# Altium schematic symbol library 282834-2.SchLib: 1 symbol
Pins are listed as number, name and electrical type; pins without a type are passive.

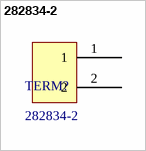
[diagram p0: symbol 282834-2]

## 282834-2
designator TERM?
TERM BLOCK 2POS SIDE ENT 2.54MM; Manufacturer: TE Connectivity; Product Training Modules: Wire-to-Board Eurostyle Terminal Blocks; Featured Product: Eurostyle Terminal Block Connectors; 3D Model: 282834-2.pdf; Number of Levels: 1; Positions Per Level: 2; Pitch: 0.100" (2.54mm); Mating Orientation: Horizontal with Board; Current: 10A; Voltage: 150V; Wire Gauge: 16-30 AWG; Wire Termination: Screw - Rising Cage Clamp; Clamp Material - Plating: Brass - Nickel Plated; Screw Material - Plating: Steel, Stainless; Torque - Screw: 0.2 Nm (1.7 Lb-In); Screw Thread: M1.6; Dynamic Catalog: Buchanan Series; Other Names: 282834-2-ND / A98333; Supplier 1: Digi-Key; Manufacturer Part Number: 282834-2; RoHS Information: 282834-2 Statement of Compliance; Standard Package: 300; Family: Terminal Blocks - Wire to Board; Series: Buchanan; Mounting Type: Through Hole; Color: Green; Packaging: Bulk; Operating Temperature: -40°C ~ 105°C; Housing Material: Polyamide (PA66), Nylon 6/6; Contact Material - Plating: Brass - Tin Plated; ComponentLink1URL: https://datasheet.ciiva.com/11758/0900766b80e7dc96-11758675.pdf; ComponentLink1Description: https://datasheet.ciiva.com/11758/0900766b80e7dc96-11758675.pdf; ComponentLink2URL: https://datasheet.ciiva.com/14609/70086732-14609670.pdf; ComponentLink2Description: https://datasheet.ciiva.com/14609/70086732-14609670.pdf; ComponentLink3URL: https://datasheet.ciiva.com/15169/getdatasheetpartid-155864-15169558.pdf; ComponentLink3Description: https://datasheet.ciiva.com/15169/getdatasheetpartid-155864-15169558.pdf; ComponentLink4URL: https://datasheet.ciiva.com/3141/eng-cs-1308389-eurostyle-terminal-blocks-0607-3141115.pdf; ComponentLink4Description: https://datasheet.ciiva.com/3141/eng-cs-1308389-eurostyle-terminal-blocks-0607-3141115.pdf; ComponentLink5URL: https://datasheet.ciiva.com/16386/282834-2-16386363.pdf; ComponentLink5Description: https://datasheet.ciiva.com/16386/282834-2-16386363.pdf; ComponentLink6URL: https://datasheet.ciiva.com/823/eng-cd-282834-c1-823453.pdf; ComponentLink6Description: https://datasheet.ciiva.com/823/eng-cd-282834-c1-823453.pdf; ComponentLink7URL: https://datasheet.ciiva.com/16676/eng-cs-1308389-eurostyle-terminal-blocks-0607-16676126.pdf; ComponentLink7Description: https://datasheet.ciiva.com/16676/eng-cs-1308389-eurostyle-terminal-blocks-0607-16676126.pdf; ComponentLink8URL: https://datasheet.ciiva.com/30166/eng-cs-1308389-eurostyle-terminal-blocks-0607-30166974.pdf; ComponentLink8Description: https://datasheet.ciiva.com/30166/eng-cs-1308389-eurostyle-terminal-blocks-0607-30166974.pdf; Supplier Part Number 1: A98333-ND; Stock 1: 10622; Pricing 1: 1=0.96, 10=0.674, 25=0.6288, 50=0.5708, 100=0.5682, 250=0.4798, 500=0.4546, 1000=0.4041, 5000=0.3788 (USD); Category: Connectors, Interconnects
pins: 1, 2